# EAGLE library part SOC14X2 (library omcSocket)
SOC14X2 - two columns 14-pin socket/fooprint 14 pins 2 columns 7 pins per column Distributor Reichelt: - Conrad: - Digi-Key: -
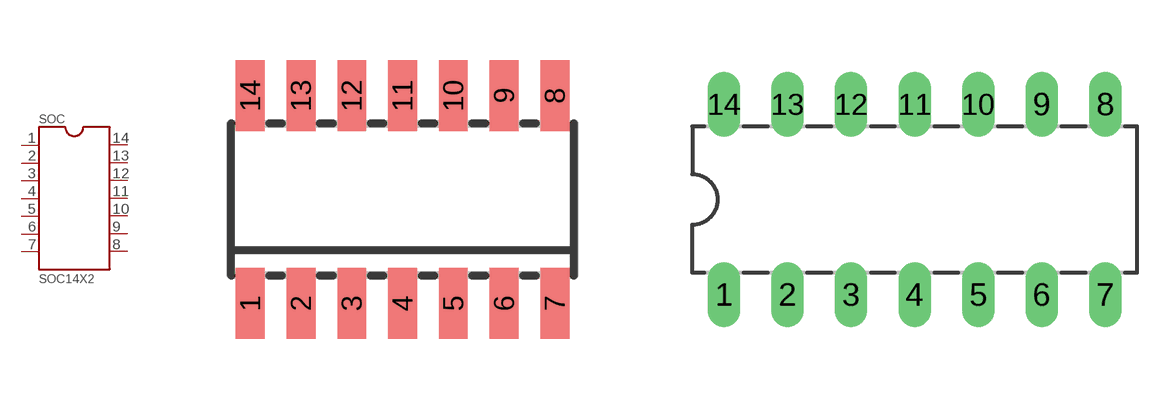
[diagram p1: symbol with the pads of SOIC14; footprints SOIC14, DIL14]

Designator prefix SOC

## SOC14X2-SOIC  [SOIC14]
1  1
2  2
3  3
4  4
5  5
6  6
7  7
8  8
9  9
10  10
11  11
12  12
13  13
14  14

## SOC14X2-DIL  [DIL14]
Pads as for SOIC14

## Footprint SOIC14 (pad centres in mm)
SOIC14 SMD 8.5mm×6.2mm Mechanical <http://glacier.lbl.gov/gtp/DOM/dataSheets/soic14_dim.pdf> Wikipedia <https://en.wikipedia.org/wiki/Small_Outline_Integrated_Circuit>
smd 0.72 x 1.78: 1 -4.445,-2.6; 2 -3.175,-2.6; 3 -1.905,-2.6; 4 -0.635,-2.6; 5 0.635,-2.6; 6 1.905,-2.6; 7 3.175,-2.6; 8 3.175,2.6; 9 1.905,2.6; 10 0.635,2.6; 11 -0.635,2.6; 12 -1.905,2.6; 13 -3.175,2.6; 14 -4.445,2.6

## Footprint DIL14 (pad centres in mm)
DIL14/DIP14 THT Dual-in-line package 18.67mm×7.62mm Mechanical <http://www.diodes.com/_files/zetex_files/pack/DIL14.pdf> Wikipedia <https://en.wikipedia.org/wiki/Dual_in-line_package>
drill 0.8 long: 1 -7.62,-3.81; 2 -5.08,-3.81; 3 -2.54,-3.81; 4 0,-3.81; 5 2.54,-3.81; 6 5.08,-3.81; 7 7.62,-3.81; 8 7.62,3.81; 9 5.08,3.81; 10 2.54,3.81; 11 0,3.81; 12 -2.54,3.81; 13 -5.08,3.81; 14 -7.62,3.81